# Altium footprint library Bemine-mc60_PCB.PcbLib: 21 footprints (part 1 of 2)
Each footprint in its own frame and in the unit in brackets; x right, y up, seen from the top. Pads: shape width x height; smd on the part's side, far side on the other; paste and mask are expansions set on the pad; w line width, h text height; cw(c..) or ccw(c..) is an arc to the next point about the centre after c.
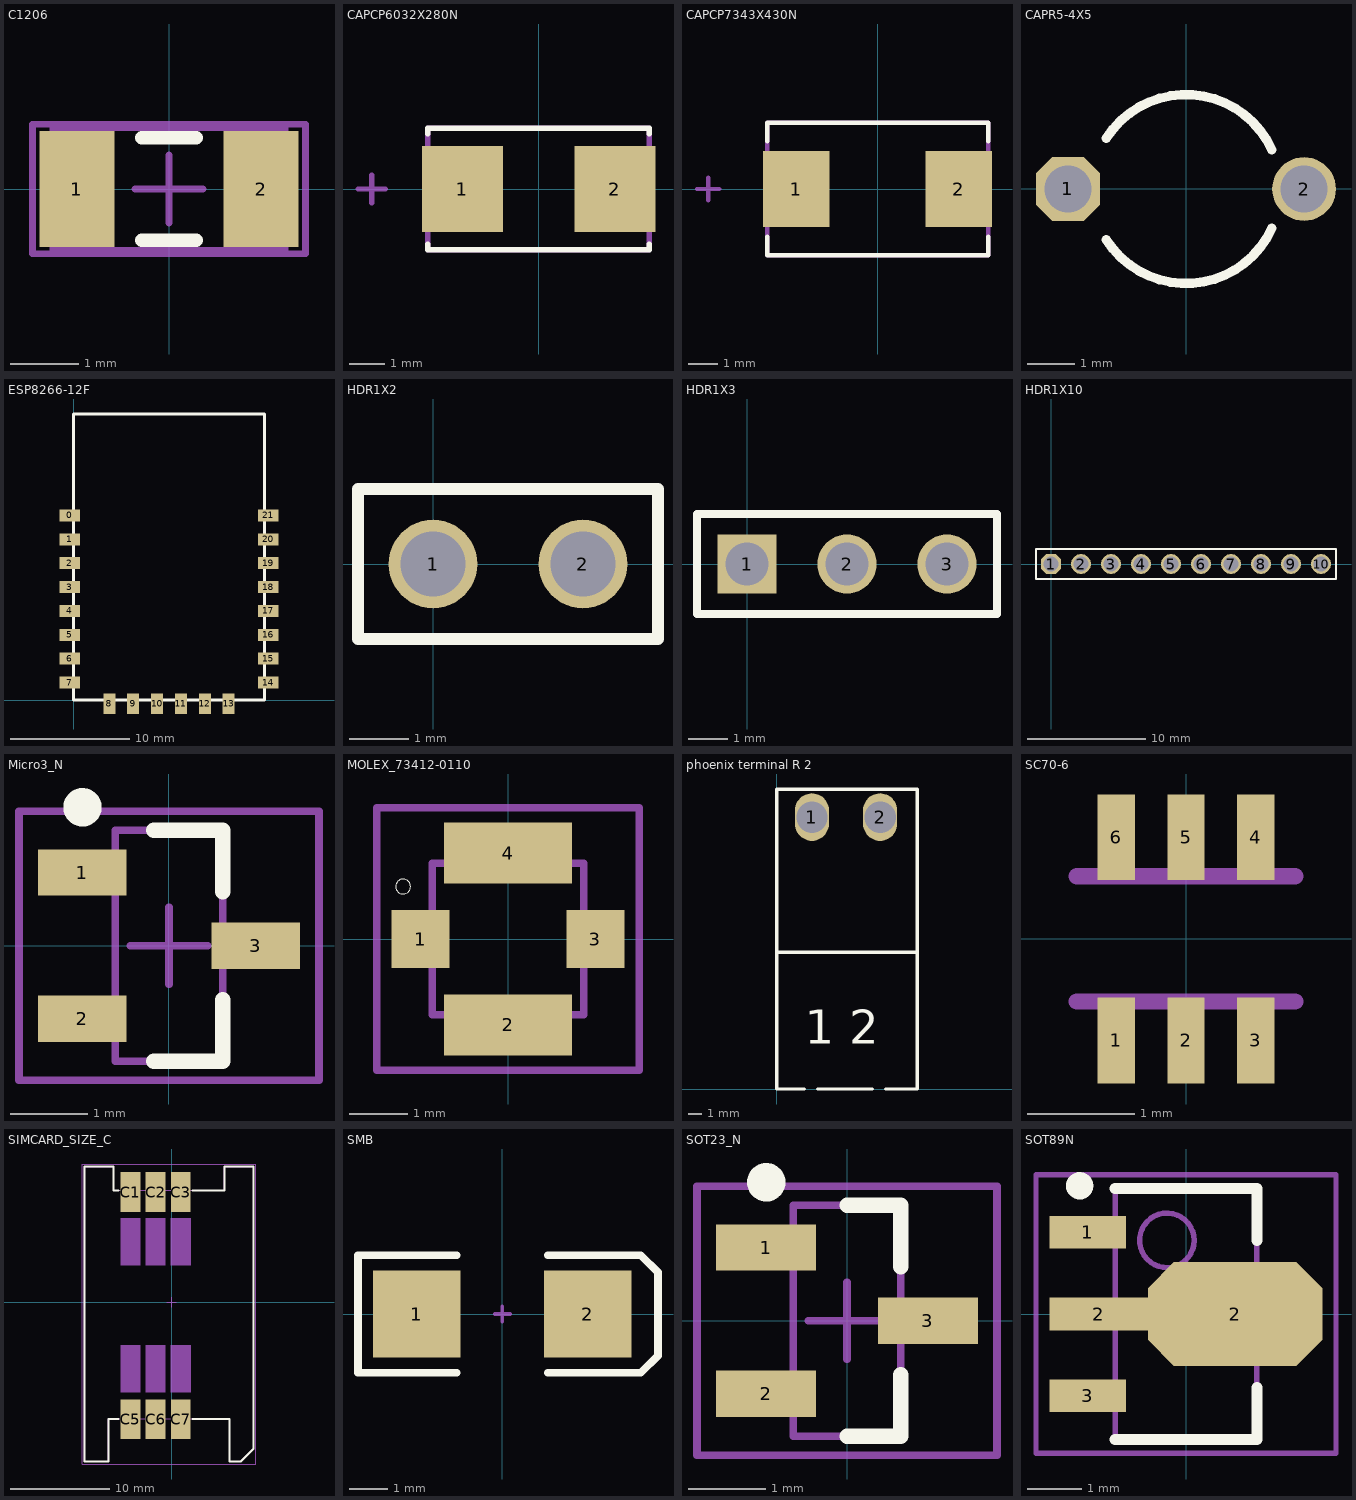
[diagram p0: the footprints below, top view; thin cyan lines are the x and y axes]

## C1206 [mm]
pads (2):
  rect 1.1x1.7 smd: 1(-1.35,0) 2(1.35,0)
Top Overlay:
  lines w0.2: -0.4,-0.75 0.4,-0.75 ; -0.4,0.75 0.4,0.75
Mechanical 13:
  lines w0.1: -1.7,-0.9 -1.7,0.9 1.7,0.9 1.7,-0.9 -1.7,-0.9
Mechanical 15:
  lines w0.1: -0.5,0 0.5,0 ; 0,-0.5 0,0.5 ; -2,-0.95 -2,0.95 2,0.95 2,-0.95 -2,-0.95
3D body: height 1.3, standoff 0, extent -1.7,-0.9 1.7,0.9

## CAPCP6032X280N [mil]
pads (2):
  rect 89x95 smd: 1(-84,0) 2(84,0)
Top Overlay:
  lines w6: -122,-61 -122,-67 122,-67 122,-61 ; -122,61 -122,67 122,67 122,61
Mechanical 1:
  lines w6: -199,0 -169,0 ; -184,-15 -184,15 ; -122,-67 -122,67 122,67 122,-67 -122,-67

## CAPCP7343X430N [mil]
pads (2):
  rect 89x102 smd: 1(-109,0) 2(109,0)
Top Overlay:
  lines w6: -148,-64 -148,-89 148,-89 148,-64 ; -148,64 -148,89 148,89 148,64
Mechanical 1:
  lines w6: -242,0 -212,0 ; -227,-15 -227,15 ; -148,-89 -148,89 148,89 148,-89 -148,-89

## CAPR5-4X5 [mm]
pads (2):
  oct 1.35x1.35 hole 1: 1(-2.5,0)
  round 1.35 hole 1: 2(2.5,0)
Top Overlay:
  lines w0.2: -1.687,-1.075 ccw(c0,0) 1.819,-0.832 ; -1.687,1.075 cw(c0,0) 1.819,0.832

## ESP8266-12F [mm]
pads (22):
  rect 1.7x1 smd: 0(-0.305,15.48) 1(-0.305,13.48) 2(-0.305,11.48) 3(-0.305,9.48) 4(-0.305,7.48) 5(-0.305,5.48) 6(-0.305,3.48) 7(-0.305,1.48) 14(16.305,1.48) 15(16.305,3.48) 16(16.305,5.48) 17(16.305,7.48) 18(16.305,9.48) 19(16.305,11.48) 20(16.305,13.48) 21(16.305,15.48)
  rect 1x1.7 smd: 8(3,-0.305) 9(5,-0.305) 10(7,-0.305) 11(9,-0.305) 12(11,-0.305) 13(13,-0.305)
Top Overlay:
  lines w0.254: 0,0 16,0 16,23.98 0,23.98 0,0

## HDR1X2 [mm]
pads (2):
  round 1.5 hole 1.1: 1(0,0) 2(2.54,0)
Top Overlay:
  lines w0.2: -1.27,-1.27 -1.27,1.27 3.81,1.27 3.81,-1.27 -1.27,-1.27

## HDR1X3 [mm]
pads (3):
  rect 1.5x1.5 hole 1.1: 1(0,0)
  round 1.5 hole 1.1: 2(2.54,0) 3(5.08,0)
Top Overlay:
  lines w0.2: -1.27,-1.27 -1.27,1.27 6.35,1.27 6.35,-1.27 -1.27,-1.27

## HDR1X10 [mm]
pads (10):
  oct 1.7x1.7 hole 1.3: 1(0,0)
  round 1.7 hole 1.3: 2(2.54,0) 3(5.08,0) 4(7.62,0) 5(10.16,0) 6(12.7,0) 7(15.24,0) 8(17.78,0) 9(20.32,0) 10(22.86,0)
Top Overlay:
  lines w0.2: -1.27,-1.27 24.13,-1.27 24.13,1.27 0.635,1.27 -1.27,1.27 -1.27,-1.27

## Micro3_N [mm]
pads (3):
  rect 1.15x0.6 smd: 1(-1.125,0.95) 2(-1.125,-0.95) 3(1.125,0)
Top Overlay:
  circle w0.25: c-1.125,1.8 r0.125
  lines w0.2: -0.2,-1.5 0.7,-1.5 0.7,-0.7 ; -0.2,1.5 0.7,1.5 0.7,0.7
Mechanical 13:
  lines w0.1: -0.7,-1.5 -0.7,1.5 0.7,1.5 0.7,-1.5 -0.7,-1.5
Mechanical 15:
  lines w0.1: -0.5,0 0.5,0 ; 0,-0.5 0,0.5 ; -1.95,-1.75 -1.95,1.75 1.95,1.75 1.95,-1.75 -1.95,-1.75
3D body: height 1.12, standoff 0, extent -0.7,-1.5 0.7,1.5

## MOLEX_73412-0110 [mm]
pads (4):
  rect 1x1 smd: 1(-1.5,0) 3(1.5,0)
  rect 2.2x1.05 smd: 2(0,-1.475) 4(0,1.475)
Top Overlay:
  circle w0: c-1.8,0.9 r0.127
Mechanical 1:
  lines w0.127: -2.25,-2.25 -2.25,2.25 2.25,2.25 2.25,-2.25 -2.25,-2.25 ; -1.3,-1.3 1.3,-1.3 1.3,1.3 -1.3,1.3 -1.3,-1.3

## phoenix terminal R 2 [mm]
pads (2):
  oval 2.5x3.5 hole 2.3: 1(2.573,19.939) 2(7.573,19.939)
Top Overlay:
  lines w0.254: 0,21.971 10.287,21.971 10.287,0 8,0 ; 0,22 0,0 2,0 ; 0.127,10.033 10.287,10.033 ; 3,0 7,0
  text "1 2" at 2.032,3.302 h2.5

## SC70-6 [mm]
pads (6):
  rect 0.35x0.8 smd: 1(-0.65,-0.95) 2(0,-0.95) 3(0.65,-0.95) 4(0.65,0.95) 5(0,0.95) 6(-0.65,0.95)
Top Paste:
  region: -0.5,0.578 -0.804,0.578 -0.804,1.325 -0.5,1.325
  region: 0.15,0.577 -0.15,0.577 -0.15,1.325 0.15,1.325
  region: 0.8,0.578 0.502,0.578 0.502,1.325 0.8,1.325
  region: 0.501,-0.575 0.8,-0.575 0.8,-1.329 0.501,-1.329
  region: -0.15,-0.575 0.15,-0.575 0.15,-1.329 -0.15,-1.329
  region: -0.802,-0.575 -0.5,-0.575 -0.5,-1.329 -0.802,-1.329
Top Solder:
  region: -0.425,0.501 -0.877,0.501 -0.877,1.4 -0.425,1.4
  region: 0.225,0.5 -0.225,0.5 -0.225,1.4 0.225,1.4
  region: 0.875,0.502 0.427,0.502 0.427,1.4 0.875,1.4
  region: 0.426,-0.5 0.875,-0.5 0.875,-1.403 0.426,-1.403
  region: -0.225,-0.5 0.225,-0.5 0.225,-1.402 -0.225,-1.402
  region: -0.876,-0.5 -0.425,-0.5 -0.425,-1.402 -0.876,-1.402
Mechanical 1:
  region: -0.5,0.627 -0.803,0.627 -0.803,1.2 -0.5,1.2
  region: 0.15,0.627 -0.151,0.627 -0.151,1.2 0.15,1.2
  region: 0.8,0.627 0.501,0.627 0.501,1.2 0.8,1.2
  region: 0.501,-0.625 0.8,-0.625 0.8,-1.203 0.501,-1.203
  region: -0.802,-0.625 -0.5,-0.625 -0.5,-1.203 -0.802,-1.203
  region: -0.151,-0.625 0.15,-0.625 0.15,-1.204 -0.151,-1.204
  lines w0.152: -1.022,-0.585 1.022,-0.585 ; -1.022,0.585 1.022,0.585

## SIMCARD_SIZE_C [mm]
pads (6):
  rect 2x4 smd: C1(-4.154,11.136) C2(-1.614,11.136) C3(0.926,11.136) C5(-4.154,-11.864) C6(-1.614,-11.864) C7(0.926,-11.864)
Top Overlay:
  lines w0.2: -5.354,-11.811 -6.384,-11.811 -6.384,-16.129 -8.804,-16.129 -8.804,13.716 -5.854,13.716 -5.854,11.303 -5.354,11.303 ; 2.146,-11.811 5.876,-11.811 5.876,-16.129 6.985,-16.129 8.296,-14.818 ; 2.146,11.303 5.346,11.303 5.346,13.716 8.296,13.716 8.296,-14.859
Mechanical 1:
  region: -5.154,3.724 -3.154,3.724 -3.154,8.474 -5.154,8.474
  region: -5.154,-9.109 -3.154,-9.109 -3.154,-4.359 -5.154,-4.359
  region: -0.074,3.724 1.926,3.724 1.926,8.474 -0.074,8.474
  region: -2.614,-9.109 -0.614,-9.109 -0.614,-4.359 -2.614,-4.359
  region: -2.614,3.724 -0.614,3.724 -0.614,8.474 -2.614,8.474
  region: -0.074,-9.109 1.926,-9.109 1.926,-4.359 -0.074,-4.359
  lines w0.05: -9.054,-16.383 -9.054,13.97 8.546,13.97 8.546,-16.383 -9.054,-16.383
  lines w0.1: -0.5,0 0.5,0 ; 0,-0.5 0,0.5 ; 5.876,-16.129 6.985,-16.129 8.296,-14.818 ; 5.876,-13.114 5.876,-11.811 -6.384,-11.811 -6.384,-16.129 -8.804,-16.129 -8.804,13.716 -5.854,13.716 -5.854,11.303 5.346,11.303 5.346,13.716 8.296,13.716 8.296,-14.859

## SMB [mm]
pads (2):
  rect 2.3x2.3 smd: 1(-2.25,0) 2(2.25,0)
Top Overlay:
  lines w0.2: -1.2,-1.55 -3.8,-1.55 -3.8,1.55 -1.2,1.55 ; 1.2,-1.55 3.65,-1.55 4.1,-1.1 4.1,1.1 3.65,1.55 1.2,1.55
Mechanical 1:
  lines w0.1: -0.2,0 0.2,0 ; 0,-0.2 0,0.2

## SOT23_N [mm]
pads (3):
  rect 1.3x0.6 smd: 1(-1.05,0.95) 2(-1.05,-0.95) 3(1.05,0)
Top Overlay:
  circle w0.25: c-1.05,1.8 r0.125
  lines w0.2: 0,-1.5 0.7,-1.5 0.7,-0.7 ; 0,1.5 0.7,1.5 0.7,0.7
Mechanical 13:
  lines w0.1: -0.7,-1.5 0.7,-1.5 0.7,1.5 -0.7,1.5 -0.7,-1.5
Mechanical 15:
  lines w0.1: -0.5,0 0.5,0 ; 0,-0.5 0,0.5 ; -1.95,-1.75 1.95,-1.75 1.95,1.75 -1.95,1.75 -1.95,-1.75
3D body: height 1.1, standoff 0, extent -0.7,-1.5 0.7,1.5

## SOT89N [mm]
pads (4):
  rect 1.4x0.6 smd: 1(-1.8,1.5) 3(-1.8,-1.5)
  rect 1.8x0.6 smd: 2(-1.6,0)
  oct 3.2x1.9 smd: 2(0.9,0)
Top Overlay:
  circle w0.25: c-1.95,2.35 r0.125
  lines w0.2: -1.3,-2.3 1.3,-2.3 1.3,-1.35 ; -1.3,2.3 1.3,2.3 1.3,1.35
Mechanical 13:
  circle w0.1: c-0.35,1.35 r0.5
  lines w0.1: -1.3,-2.3 -1.3,2.3 1.3,2.3 1.3,-2.3 -1.3,-2.3
Mechanical 15:
  lines w0.1: -0.5,0 0.5,0 ; 0,-0.5 0,0.5 ; -2.75,-2.55 -2.75,2.55 2.75,2.55 2.75,-2.55 -2.75,-2.55
3D body: height 1.6, standoff 0, extent -1.3,-2.3 1.3,2.3